# EAGLE library part PWRCAST (library powercast)
Powercast Receiver P2110B Module
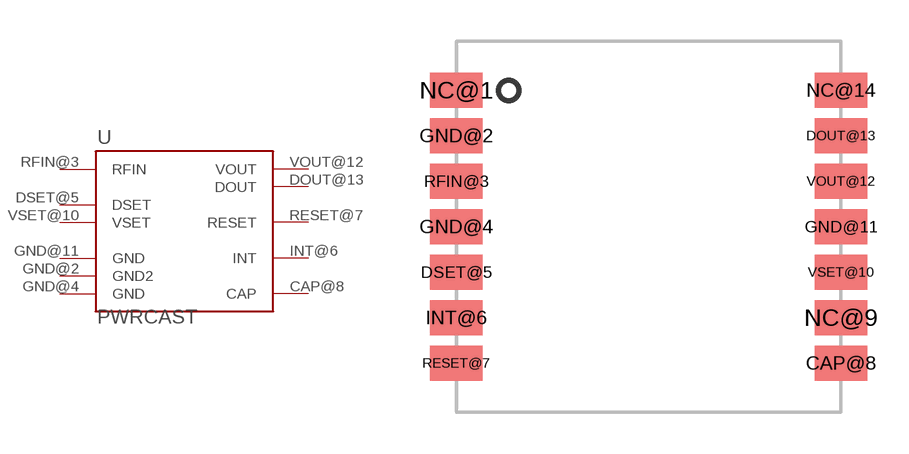
[diagram p0: symbol with the pads of POWERCASTRCVMOD; footprint POWERCASTRCVMOD]

Designator prefix -

## PWRCAST  [POWERCASTRCVMOD]
CAP@8  CAP  pwr
DOUT@13  DOUT
DSET@5  DSET
GND@2  GND2  pwr
GND@4  GND  pwr
GND@11  GND  pwr
INT@6  INT  out
RESET@7  RESET  in
RFIN@3  RFIN  pwr
VOUT@12  VOUT  pwr
VSET@10  VSET

## Footprint POWERCASTRCVMOD (pad centres in mm)
Footprint for Powercast P2110B surface-mount PCB module
smd 1.905 x 1.27: CAP@8 6.985,-4.953; DOUT@13 6.985,3.302; DSET@5 -6.985,-1.651; GND@2 -6.985,3.302; GND@4 -6.985,0; GND@11 6.985,0; INT@6 -6.985,-3.302; NC@1 -6.985,4.953; NC@9 6.985,-3.302; NC@14 6.985,4.953; RESET@7 -6.985,-4.953; RFIN@3 -6.985,1.651; VOUT@12 6.985,1.651; VSET@10 6.985,-1.651